# EAGLE library part RN42 (library crystal)
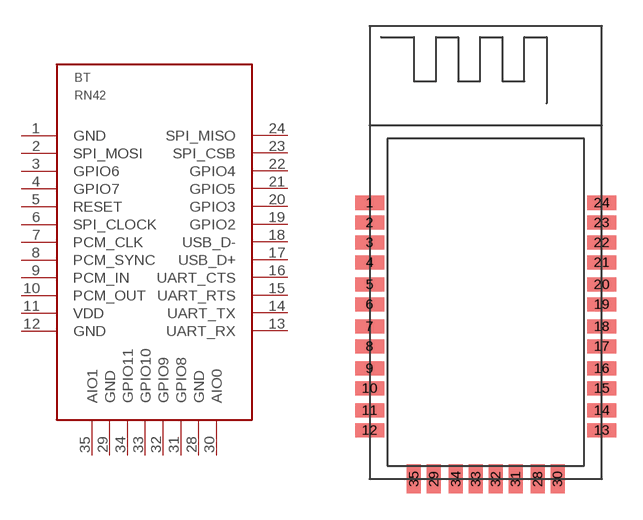
[diagram p0: symbol with the pads of RN42; footprint RN42]

Designator prefix BT

## RN42  [RN42]
1  GND  pwr
2  SPI_MOSI
3  GPIO6
4  GPIO7
5  RESET  in
6  SPI_CLOCK
7  PCM_CLK  nc
8  PCM_SYNC  nc
9  PCM_IN  nc
10  PCM_OUT  nc
11  VDD  pwr
12  GND  pwr
13  UART_RX
14  UART_TX
15  UART_RTS
16  UART_CTS
17  USB_D+
18  USB_D-
19  GPIO2
20  GPIO3
21  GPIO5
22  GPIO4
23  SPI_CSB
24  SPI_MISO
28  GND  pwr
29  GND  pwr
30  AIO0
31  GPIO8
32  GPIO9
33  GPIO10
34  GPIO11
35  AIO1

## Footprint RN42 (pad centres in mm)
smd 1.676 x 0.813: 1 -6.35,6.985; 2 -6.35,5.842; 3 -6.35,4.699; 4 -6.35,3.556; 5 -6.35,2.286; 6 -6.35,1.143; 7 -6.35,-0.127; 8 -6.35,-1.27; 9 -6.35,-2.54; 10 -6.35,-3.683; 11 -6.35,-4.953; 12 -6.35,-6.096; 13 6.985,-6.096; 14 6.985,-4.953; 15 6.985,-3.683; 16 6.985,-2.54; 17 6.985,-1.27; 18 6.985,-0.127; 19 6.985,1.143; 20 6.985,2.286; 21 6.985,3.556; 22 6.985,4.699; 23 6.985,5.842; 24 6.985,6.985
smd 0.813 x 1.676: 28 3.302,-8.89; 29 -2.667,-8.89; 30 4.445,-8.89; 31 2.032,-8.89; 32 0.889,-8.89; 33 -0.254,-8.89; 34 -1.397,-8.89; 35 -3.81,-8.89